# Altium schematic symbol library RES,Omit,0402.Schlib: 1 symbol
Pins are listed as number, name and electrical type; pins without a type are passive.

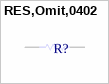
[diagram p0: symbol RES,Omit,0402]

## RES,Omit,0402
designator R?, comment Omit  (value not drawn)  (no BOM)
pins: 1, 2